# Altium footprint library Connectors - Rectangular.PcbLib: 28 footprints (part 2 of 2)
Each footprint in its own frame and in the unit in brackets; x right, y up, seen from the top. Pads: shape width x height; smd on the part's side, far side on the other; paste and mask are expansions set on the pad; w line width, h text height; cw(c..) or ccw(c..) is an arc to the next point about the centre after c.
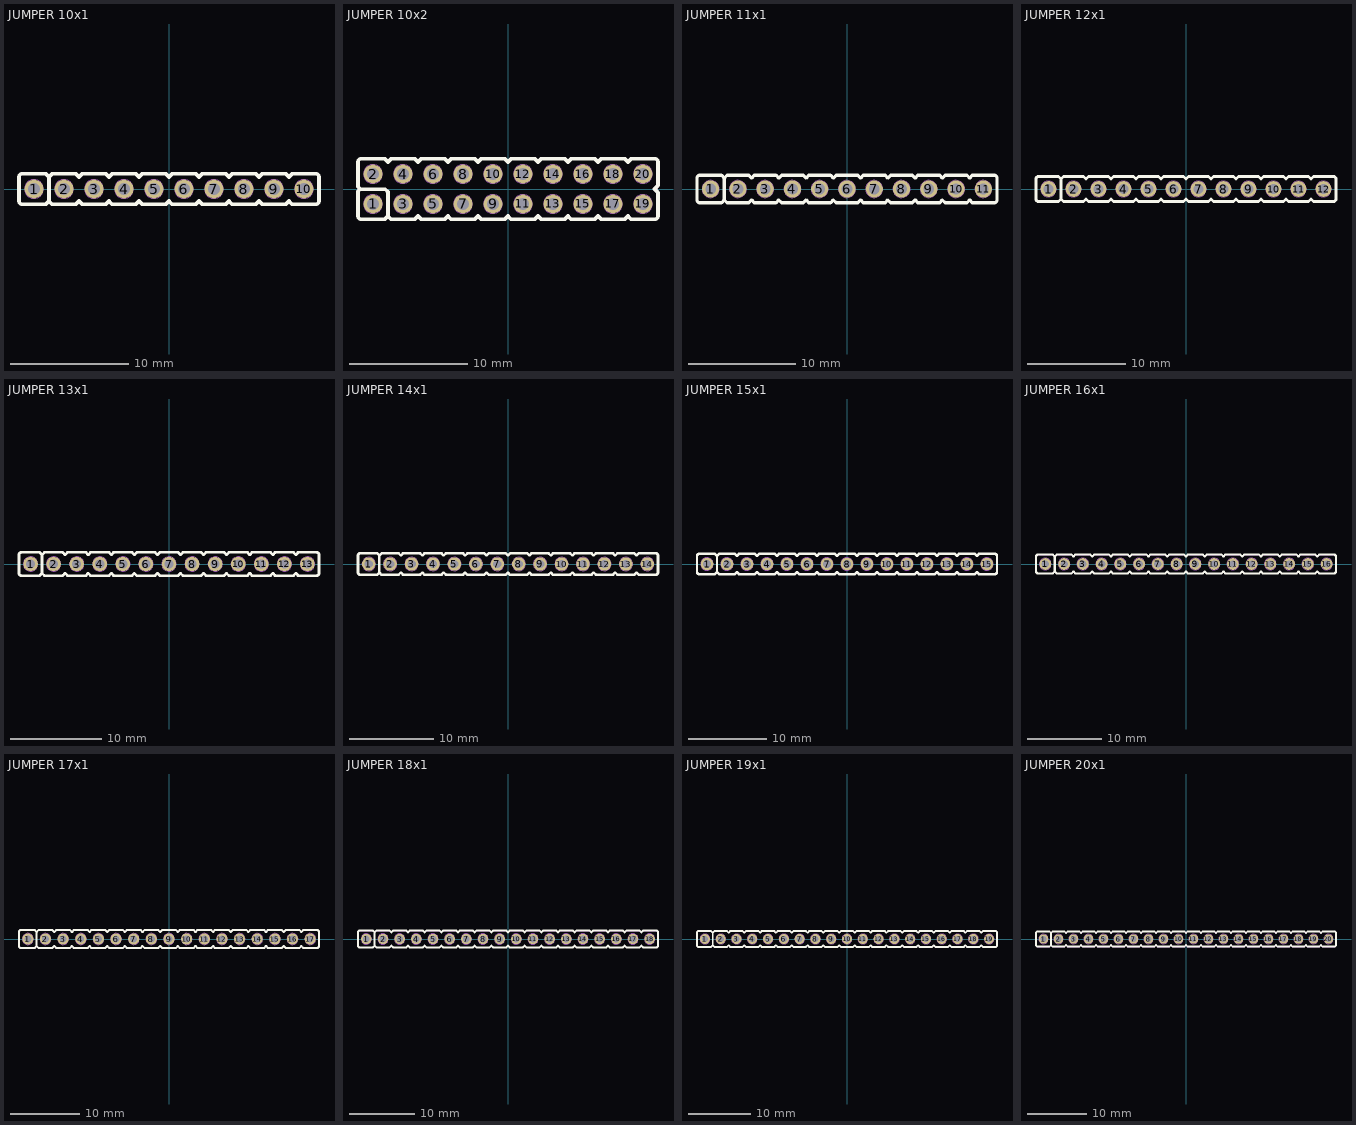
[diagram p1: the footprints below, top view; thin cyan lines are the x and y axes]

## JUMPER 10x1 [mm] "Connector DIP Male, 10Pin_2.54mm"
height 5
pads (10):
  round 1.6 hole 1 mask+0.1: 1(-11.43,0) 2(-8.89,0) 3(-6.35,0) 4(-3.81,0) 5(-1.27,0) 6(1.27,0) 7(3.81,0) 8(6.35,0) 9(8.89,0) 10(11.43,0)
Top Overlay:
  lines w0.3: -10.414,-1.28 -10.414,-1.27 ; -10.414,1.27 -10.16,1.016 ; -10.414,1.28 -12.46,1.28 ccw(c-12.44,1.02) -12.7,1 -12.7,-1 ccw(c-12.44,-1.02) -12.46,-1.28 -10.424,-1.28 -10.414,-1.27 ; -9.906,1.27 -10.16,1.016 ; -9.906,1.28 -7.874,1.28 -7.874,1.27 -7.62,1.016 -7.366,1.27 ; -7.38,-1.28 -5.344,-1.28 -5.334,-1.27 ; -7.38,1.28 -5.334,1.28 ; -7.366,-1.27 -7.62,-1.016 -7.874,-1.27 -7.874,-1.28 -9.906,-1.28 -10.16,-1.026 ; -5.334,-1.28 -5.334,-1.27 ; -5.334,1.27 -5.08,1.016 -4.826,1.27 ; -4.826,1.28 -2.794,1.28 -2.794,1.27 -2.54,1.016 -2.286,1.27 ; -2.3,-1.28 -0.264,-1.28 -0.254,-1.27 ; -2.3,1.28 -0.254,1.28 ; -2.286,-1.27 -2.54,-1.016 -2.794,-1.27 -2.794,-1.28 -4.826,-1.28 -5.08,-1.026 -5.08,-1.016 -5.334,-1.27 ; -0.254,-1.28 -0.254,-1.27 ; -0.254,1.27 0,1.016 0.254,1.27 ; 0.254,1.28 2.286,1.28 2.286,1.27 2.54,1.016 2.794,1.27 ; 2.78,-1.28 4.816,-1.28 4.826,-1.27 ; 2.78,1.28 4.826,1.28 ; 2.794,-1.27 2.54,-1.016 2.286,-1.27 2.286,-1.28 0.254,-1.28 0,-1.026 0,-1.016 -0.254,-1.27 ; 4.826,-1.28 4.826,-1.27 ; 4.826,1.27 5.08,1.016 5.334,1.27 ; 5.334,1.28 7.366,1.28 7.366,1.27 7.62,1.016 7.874,1.27 ; 7.86,-1.28 9.896,-1.28 9.906,-1.27 ; 7.86,1.28 9.906,1.28 ; 7.874,-1.27 7.62,-1.016 7.366,-1.27 7.366,-1.28 5.334,-1.28 5.08,-1.026 5.08,-1.016 4.826,-1.27 ; 9.906,-1.28 9.906,-1.27 ; 9.906,1.27 10.16,1.016 10.414,1.27 ; 10.414,1.28 12.446,1.28 ; 12.446,-1.28 10.414,-1.28 10.16,-1.026 10.16,-1.016 9.906,-1.27 ; 12.46,-1.28 ccw(c12.44,-1.02) 12.7,-1 12.7,1 ccw(c12.44,1.02) 12.46,1.28 ; -10.414,-1.27 -10.16,-1.016 -10.16,-1.026 ; -10.16,-1.026 -10.16,1.016
Top HCB:
  circle w0.05: c-11.43,0 r0.8
  circle w0.05: c-11.43,0 r0.8
  circle w0.05: c-3.81,0 r0.8
  circle w0.05: c-6.35,0 r0.8
  circle w0.05: c3.81,0 r0.8
  circle w0.05: c1.27,0 r0.8
  circle w0.05: c11.43,0 r0.8
  circle w0.05: c8.89,0 r0.8
  circle w0.05: c-1.27,0 r0.8
  circle w0.05: c-8.89,0 r0.8
  circle w0.05: c6.35,0 r0.8
  lines w0.05: -10.414,-1.28 -10.414,-1.27 ; -10.414,1.27 -10.16,1.016 ; -10.414,1.28 -12.46,1.28 ccw(c-12.44,1.02) -12.7,1 -12.7,-1 ccw(c-12.44,-1.02) -12.46,-1.28 -10.424,-1.28 -10.414,-1.27 ; -9.906,1.27 -10.16,1.016 ; -9.906,1.28 -7.874,1.28 -7.874,1.27 -7.62,1.016 -7.366,1.27 ; -7.38,-1.28 -5.344,-1.28 -5.334,-1.27 ; -7.38,1.28 -5.334,1.28 ; -7.366,-1.27 -7.62,-1.016 -7.874,-1.27 -7.874,-1.28 -9.906,-1.28 -10.16,-1.026 -10.16,-1.016 ; -5.334,-1.28 -5.334,-1.27 ; -5.334,1.27 -5.08,1.016 -4.826,1.27 ; -4.826,1.28 -2.794,1.28 -2.794,1.27 -2.54,1.016 -2.286,1.27 ; -2.3,-1.28 -0.264,-1.28 -0.254,-1.27 ; -2.3,1.28 -0.254,1.28 ; -2.286,-1.27 -2.54,-1.016 -2.794,-1.27 -2.794,-1.28 -4.826,-1.28 -5.08,-1.026 -5.08,-1.016 -5.334,-1.27 ; -0.254,-1.28 -0.254,-1.27 ; -0.254,1.27 0,1.016 0.254,1.27 ; 0.254,1.28 2.286,1.28 2.286,1.27 2.54,1.016 2.794,1.27 ; 2.78,-1.28 4.816,-1.28 4.826,-1.27 ; 2.78,1.28 4.826,1.28 ; 2.794,-1.27 2.54,-1.016 2.286,-1.27 2.286,-1.28 0.254,-1.28 0,-1.026 0,-1.016 -0.254,-1.27 ; 4.826,-1.28 4.826,-1.27 ; 4.826,1.27 5.08,1.016 5.334,1.27 ; 5.334,1.28 7.366,1.28 7.366,1.27 7.62,1.016 7.874,1.27 ; 7.86,-1.28 9.896,-1.28 9.906,-1.27 ; 7.86,1.28 9.906,1.28 ; 7.874,-1.27 7.62,-1.016 7.366,-1.27 7.366,-1.28 5.334,-1.28 5.08,-1.026 5.08,-1.016 4.826,-1.27 ; 9.906,-1.28 9.906,-1.27 ; 9.906,1.27 10.16,1.016 10.414,1.27 ; 10.414,1.28 12.446,1.28 ; 12.446,-1.28 10.414,-1.28 10.16,-1.026 10.16,-1.016 9.906,-1.27 ; 12.46,-1.28 ccw(c12.44,-1.02) 12.7,-1 12.7,1 ccw(c12.44,1.02) 12.46,1.28 ; -10.414,-1.27 -10.16,-1.016 ; -10.16,-1.016 -10.16,1.016
  text "1" at -11.6,-0.4 h1.2
  text "10" at 10.9,-0.4 h1.2
3D body "Header 1x10.STEP": height 10.1, standoff -1.5, extent -12.7,-1.27 12.7,1.27

## JUMPER 10x2 [mm] "Connector DIP Male, 2x10Pin_2.54mm"
height 5
pads (20):
  round 1.6 hole 1 mask+0.1: 1(-11.43,-1.27) 2(-11.43,1.27) 3(-8.89,-1.27) 4(-8.89,1.27) 5(-6.35,-1.27) 6(-6.35,1.27) 7(-3.81,-1.27) 8(-3.81,1.27) 9(-1.27,-1.27) 10(-1.27,1.27) 11(1.27,-1.27) 12(1.27,1.27) 13(3.81,-1.27) 14(3.81,1.27) 15(6.35,-1.27) 16(6.35,1.27) 17(8.89,-1.27) 18(8.89,1.27) 19(11.43,-1.27) 20(11.43,1.27)
Top Overlay:
  lines w0.3: -12.5,-0.01 -10.4,-0.01 -10.16,-0.25 -10.16,-2.306 ; -10.414,-2.55 -10.414,-2.54 ; -10.414,2.54 -10.16,2.286 -9.906,2.54 ; -10.414,2.55 -12.46,2.55 ccw(c-12.44,2.29) -12.7,2.27 -12.7,0.2 -12.5,0 -12.7,-0.2 -12.7,-2.27 ccw(c-12.44,-2.29) -12.46,-2.55 -10.424,-2.55 -10.414,-2.54 ; -9.906,2.55 -7.874,2.55 -7.874,2.54 -7.62,2.286 -7.366,2.54 ; -7.38,-2.55 -5.344,-2.55 -5.334,-2.54 ; -7.38,2.55 -5.334,2.55 ; -7.366,-2.54 -7.62,-2.286 -7.874,-2.54 -7.874,-2.55 -9.906,-2.55 -10.16,-2.296 -10.16,-2.286 -10.414,-2.54 ; -5.334,-2.55 -5.334,-2.54 ; -5.334,2.54 -5.08,2.286 -4.826,2.54 ; -4.826,2.55 -2.794,2.55 -2.794,2.54 -2.54,2.286 -2.286,2.54 ; -2.3,-2.55 -0.264,-2.55 -0.254,-2.54 ; -2.3,2.55 -0.254,2.55 ; -2.286,-2.54 -2.54,-2.286 -2.794,-2.54 -2.794,-2.55 -4.826,-2.55 -5.08,-2.296 -5.08,-2.286 -5.334,-2.54 ; -0.254,-2.55 -0.254,-2.54 ; -0.254,2.54 0,2.286 0.254,2.54 ; 0.254,2.55 2.286,2.55 2.286,2.54 2.54,2.286 2.794,2.54 ; 2.78,-2.55 4.816,-2.55 4.826,-2.54 ; 2.78,2.55 4.826,2.55 ; 2.794,-2.54 2.54,-2.286 2.286,-2.54 2.286,-2.55 0.254,-2.55 0,-2.296 0,-2.286 -0.254,-2.54 ; 4.826,-2.55 4.826,-2.54 ; 4.826,2.54 5.08,2.286 5.334,2.54 ; 5.334,2.55 7.366,2.55 7.366,2.54 7.62,2.286 7.874,2.54 ; 7.86,-2.55 9.896,-2.55 9.906,-2.54 ; 7.86,2.55 9.906,2.55 ; 7.874,-2.54 7.62,-2.286 7.366,-2.54 7.366,-2.55 5.334,-2.55 5.08,-2.296 5.08,-2.286 4.826,-2.54 ; 9.906,-2.55 9.906,-2.54 ; 9.906,2.54 10.16,2.286 10.414,2.54 ; 10.414,2.55 12.446,2.55 ; 12.446,-2.55 10.414,-2.55 10.16,-2.296 10.16,-2.286 9.906,-2.54 ; 12.46,-2.55 ccw(c12.44,-2.29) 12.7,-2.27 ; 12.46,2.55 cw(c12.44,2.29) 12.7,2.27 12.7,0.3 12.4,0 12.7,-0.3 12.7,-2.2
Top HCB:
  circle w0.05: c-11.43,1.27 r0.8
  circle w0.05: c-6.35,1.27 r0.8
  circle w0.05: c-3.81,1.27 r0.8
  circle w0.05: c1.27,1.27 r0.8
  circle w0.05: c3.81,1.27 r0.8
  circle w0.05: c8.89,1.27 r0.8
  circle w0.05: c11.43,1.27 r0.8
  circle w0.05: c-11.43,-1.27 r0.8
  circle w0.05: c-3.81,-1.27 r0.8
  circle w0.05: c-6.35,-1.27 r0.8
  circle w0.05: c3.81,-1.27 r0.8
  circle w0.05: c1.27,-1.27 r0.8
  circle w0.05: c11.43,-1.27 r0.8
  circle w0.05: c8.89,-1.27 r0.8
  circle w0.05: c-8.89,1.27 r0.8
  circle w0.05: c-1.27,1.27 r0.8
  circle w0.05: c6.35,1.27 r0.8
  circle w0.05: c-1.27,-1.27 r0.8
  circle w0.05: c-8.89,-1.27 r0.8
  circle w0.05: c6.35,-1.27 r0.8
  lines w0.05: -12.7,0 -10.4,0 -10.16,-0.24 -10.16,-2.296 ; -10.414,-2.55 -10.414,-2.54 ; -10.414,2.54 -10.16,2.286 -9.906,2.54 ; -10.414,2.55 -12.46,2.55 ccw(c-12.44,2.29) -12.7,2.27 -12.7,-2.27 ccw(c-12.44,-2.29) -12.46,-2.55 -10.424,-2.55 -10.414,-2.54 ; -9.906,2.55 -7.874,2.55 -7.874,2.54 -7.62,2.286 -7.366,2.54 ; -7.38,-2.55 -5.344,-2.55 -5.334,-2.54 ; -7.38,2.55 -5.334,2.55 ; -7.366,-2.54 -7.62,-2.286 -7.874,-2.54 -7.874,-2.55 -9.906,-2.55 -10.16,-2.296 ; -5.334,-2.55 -5.334,-2.54 ; -5.334,2.54 -5.08,2.286 -4.826,2.54 ; -4.826,2.55 -2.794,2.55 -2.794,2.54 -2.54,2.286 -2.286,2.54 ; -2.3,-2.55 -0.264,-2.55 -0.254,-2.54 ; -2.3,2.55 -0.254,2.55 ; -2.286,-2.54 -2.54,-2.286 -2.794,-2.54 -2.794,-2.55 -4.826,-2.55 -5.08,-2.296 -5.08,-2.286 -5.334,-2.54 ; -0.254,-2.55 -0.254,-2.54 ; -0.254,2.54 0,2.286 0.254,2.54 ; 0.254,2.55 2.286,2.55 2.286,2.54 2.54,2.286 2.794,2.54 ; 2.78,-2.55 4.816,-2.55 4.826,-2.54 ; 2.78,2.55 4.826,2.55 ; 2.794,-2.54 2.54,-2.286 2.286,-2.54 2.286,-2.55 0.254,-2.55 0,-2.296 0,-2.286 -0.254,-2.54 ; 4.826,-2.55 4.826,-2.54 ; 4.826,2.54 5.08,2.286 5.334,2.54 ; 5.334,2.55 7.366,2.55 7.366,2.54 7.62,2.286 7.874,2.54 ; 7.86,-2.55 9.896,-2.55 9.906,-2.54 ; 7.86,2.55 9.906,2.55 ; 7.874,-2.54 7.62,-2.286 7.366,-2.54 7.366,-2.55 5.334,-2.55 5.08,-2.296 5.08,-2.286 4.826,-2.54 ; 9.906,-2.55 9.906,-2.54 ; 9.906,2.54 10.16,2.286 10.414,2.54 ; 10.414,2.55 12.446,2.55 ; 12.446,-2.55 10.414,-2.55 10.16,-2.296 10.16,-2.286 9.906,-2.54 ; 12.46,-2.55 ccw(c12.44,-2.29) 12.7,-2.27 12.7,2.27 ccw(c12.44,2.29) 12.46,2.55 ; -10.414,-2.54 -10.16,-2.286 -10.16,-2.296
  text "1" at -11.6,-1.67 h1.2
  text "2" at -11.6,0.87 h1.2
  text "19" at 10.9,-1.67 h1.2
  text "20" at 10.9,0.87 h1.2
3D body "User Library-0_1_inch_double row_pin strip 10.step": height 10.1, standoff -1.5, extent -12.7,-2.54 12.7,2.54

## JUMPER 11x1 [mm] "Connector DIP Male, 11Pin_2.54mm"
height 5
pads (11):
  round 1.6 hole 1 mask+0.1: 1(-12.7,0) 2(-10.16,0) 3(-7.62,0) 4(-5.08,0) 5(-2.54,0) 6(0,0) 7(2.54,0) 8(5.08,0) 9(7.62,0) 10(10.16,0) 11(12.7,0)
Top Overlay:
  lines w0.3: -11.684,-1.28 -11.684,-1.27 ; -11.684,1.27 -11.43,1.016 ; -11.684,1.28 -13.73,1.28 ccw(c-13.71,1.02) -13.97,1 -13.97,-1 ccw(c-13.71,-1.02) -13.73,-1.28 -11.694,-1.28 -11.684,-1.27 ; -11.176,1.27 -11.43,1.016 ; -11.176,1.28 -9.144,1.28 -9.144,1.27 -8.89,1.016 -8.636,1.27 ; -8.65,-1.28 -6.614,-1.28 -6.604,-1.27 ; -8.65,1.28 -6.604,1.28 ; -8.636,-1.27 -8.89,-1.016 -9.144,-1.27 -9.144,-1.28 -11.176,-1.28 -11.43,-1.026 -11.43,-1.016 ; -6.604,-1.28 -6.604,-1.27 ; -6.604,1.27 -6.35,1.016 -6.096,1.27 ; -6.096,1.28 -4.064,1.28 -4.064,1.27 -3.81,1.016 -3.556,1.27 ; -3.57,-1.28 -1.534,-1.28 -1.524,-1.27 ; -3.57,1.28 -1.524,1.28 ; -3.556,-1.27 -3.81,-1.016 -4.064,-1.27 -4.064,-1.28 -6.096,-1.28 -6.35,-1.026 -6.35,-1.016 -6.604,-1.27 ; -1.524,-1.28 -1.524,-1.27 ; -1.524,1.27 -1.27,1.016 -1.016,1.27 ; -1.016,1.28 1.016,1.28 1.016,1.27 1.27,1.016 1.524,1.27 ; 1.51,-1.28 3.546,-1.28 3.556,-1.27 ; 1.51,1.28 3.556,1.28 ; 1.524,-1.27 1.27,-1.016 1.016,-1.27 1.016,-1.28 -1.016,-1.28 -1.27,-1.026 -1.27,-1.016 -1.524,-1.27 ; 3.556,-1.28 3.556,-1.27 ; 3.556,1.27 3.81,1.016 4.064,1.27 ; 4.064,1.28 6.096,1.28 6.096,1.27 6.35,1.016 6.604,1.27 ; 6.59,-1.28 8.626,-1.28 8.636,-1.27 ; 6.59,1.28 8.636,1.28 ; 6.604,-1.27 6.35,-1.016 6.096,-1.27 6.096,-1.28 4.064,-1.28 3.81,-1.026 3.81,-1.016 3.556,-1.27 ; 8.636,-1.28 8.636,-1.27 ; 8.636,1.27 8.89,1.016 9.144,1.27 ; 9.144,1.28 11.176,1.28 11.176,1.27 11.43,1.016 11.684,1.27 ; 11.67,-1.28 13.706,-1.28 ; 11.67,1.28 13.716,1.28 ; 11.684,-1.27 11.43,-1.016 11.176,-1.27 11.176,-1.28 9.144,-1.28 8.89,-1.026 8.89,-1.016 8.636,-1.27 ; 13.73,-1.28 ccw(c13.71,-1.02) 13.97,-1 13.97,1 ccw(c13.71,1.02) 13.73,1.28 ; -11.684,-1.27 -11.43,-1.016 ; -11.43,-1.016 -11.43,1.016
Top HCB:
  circle w0.05: c7.62,0 r0.8
  circle w0.05: c12.7,0 r0.8
  circle w0.05: c10.16,0 r0.8
  circle w0.05: c2.54,0 r0.8
  circle w0.05: c0,0 r0.8
  circle w0.05: c-2.54,0 r0.8
  circle w0.05: c-7.62,0 r0.8
  circle w0.05: c-10.16,0 r0.8
  circle w0.05: c-12.7,0 r0.8
  circle w0.05: c-12.7,0 r0.8
  circle w0.05: c5.08,0 r0.8
  circle w0.05: c-5.08,0 r0.8
  lines w0.05: -11.684,-1.28 -11.684,-1.27 ; -11.684,1.27 -11.43,1.016 -11.176,1.27 ; -11.684,1.28 -13.73,1.28 ccw(c-13.71,1.02) -13.97,1 -13.97,-1 ccw(c-13.71,-1.02) -13.73,-1.28 -11.694,-1.28 -11.684,-1.27 ; -11.176,1.28 -9.144,1.28 -9.144,1.27 -8.89,1.016 -8.636,1.27 ; -8.65,-1.28 -6.614,-1.28 -6.604,-1.27 ; -8.65,1.28 -6.604,1.28 ; -8.636,-1.27 -8.89,-1.016 -9.144,-1.27 -9.144,-1.28 -11.176,-1.28 -11.43,-1.026 -11.43,-1.016 -11.684,-1.27 ; -6.604,-1.28 -6.604,-1.27 ; -6.604,1.27 -6.35,1.016 -6.096,1.27 ; -6.096,1.28 -4.064,1.28 -4.064,1.27 -3.81,1.016 -3.556,1.27 ; -3.57,-1.28 -1.534,-1.28 -1.524,-1.27 ; -3.57,1.28 -1.524,1.28 ; -3.556,-1.27 -3.81,-1.016 -4.064,-1.27 -4.064,-1.28 -6.096,-1.28 -6.35,-1.026 -6.35,-1.016 -6.604,-1.27 ; -1.524,-1.28 -1.524,-1.27 ; -1.524,1.27 -1.27,1.016 -1.016,1.27 ; -1.016,1.28 1.016,1.28 1.016,1.27 1.27,1.016 1.524,1.27 ; 1.51,-1.28 3.546,-1.28 3.556,-1.27 ; 1.51,1.28 3.556,1.28 ; 1.524,-1.27 1.27,-1.016 1.016,-1.27 1.016,-1.28 -1.016,-1.28 -1.27,-1.026 -1.27,-1.016 -1.524,-1.27 ; 3.556,-1.28 3.556,-1.27 ; 3.556,1.27 3.81,1.016 4.064,1.27 ; 4.064,1.28 6.096,1.28 6.096,1.27 6.35,1.016 6.604,1.27 ; 6.59,-1.28 8.626,-1.28 8.636,-1.27 ; 6.59,1.28 8.636,1.28 ; 6.604,-1.27 6.35,-1.016 6.096,-1.27 6.096,-1.28 4.064,-1.28 3.81,-1.026 3.81,-1.016 3.556,-1.27 ; 8.636,-1.28 8.636,-1.27 ; 8.636,1.27 8.89,1.016 9.144,1.27 ; 9.144,1.28 11.176,1.28 11.176,1.27 11.43,1.016 11.684,1.27 ; 11.67,-1.28 13.706,-1.28 ; 11.67,1.28 13.716,1.28 ; 11.684,-1.27 11.43,-1.016 11.176,-1.27 11.176,-1.28 9.144,-1.28 8.89,-1.026 8.89,-1.016 8.636,-1.27 ; 13.73,-1.28 ccw(c13.71,-1.02) 13.97,-1 13.97,1 ccw(c13.71,1.02) 13.73,1.28
  text "11" at 12.2,-0.4 h1.2
  text "1" at -12.842,-0.386 h1.2
3D body "SW3dPS-0_1inch pin strip.STEP": height 10.1, standoff -1.5, extent -13.97,-1.27 13.97,1.27

## JUMPER 12x1 [mm] "Connector DIP, 12Pin_2.54mm"
height 5
pads (12):
  round 1.6 hole 1 mask+0.1: 1(-13.97,0) 2(-11.43,0) 3(-8.89,0) 4(-6.35,0) 5(-3.81,0) 6(-1.27,0) 7(1.27,0) 8(3.81,0) 9(6.35,0) 10(8.89,0) 11(11.43,0) 12(13.97,0)
Top Overlay:
  lines w0.3: -12.954,-1.28 -12.954,-1.27 ; -12.954,1.27 -12.7,1.016 ; -12.954,1.28 -15,1.28 ccw(c-14.98,1.02) -15.24,1 -15.24,-1 ccw(c-14.98,-1.02) -15,-1.28 -12.964,-1.28 -12.954,-1.27 ; -12.446,1.27 -12.7,1.016 ; -12.446,1.28 -10.414,1.28 -10.414,1.27 -10.16,1.016 -9.906,1.27 ; -9.92,-1.28 -7.884,-1.28 -7.874,-1.27 ; -9.92,1.28 -7.874,1.28 ; -9.906,-1.27 -10.16,-1.016 -10.414,-1.27 -10.414,-1.28 -12.446,-1.28 -12.7,-1.026 -12.7,-1.016 ; -7.874,-1.28 -7.874,-1.27 ; -7.874,1.27 -7.62,1.016 -7.366,1.27 ; -7.366,1.28 -5.334,1.28 -5.334,1.27 -5.08,1.016 -4.826,1.27 ; -4.84,-1.28 -2.804,-1.28 -2.794,-1.27 ; -4.84,1.28 -2.794,1.28 ; -4.826,-1.27 -5.08,-1.016 -5.334,-1.27 -5.334,-1.28 -7.366,-1.28 -7.62,-1.026 -7.62,-1.016 -7.874,-1.27 ; -2.794,-1.28 -2.794,-1.27 ; -2.794,1.27 -2.54,1.016 -2.286,1.27 ; -2.286,1.28 -0.254,1.28 -0.254,1.27 0,1.016 0.254,1.27 ; 0.24,-1.28 2.276,-1.28 2.286,-1.27 ; 0.24,1.28 2.286,1.28 ; 0.254,-1.27 0,-1.016 -0.254,-1.27 -0.254,-1.28 -2.286,-1.28 -2.54,-1.026 -2.54,-1.016 -2.794,-1.27 ; 2.286,-1.28 2.286,-1.27 ; 2.286,1.27 2.54,1.016 2.794,1.27 ; 2.794,1.28 4.826,1.28 4.826,1.27 5.08,1.016 5.334,1.27 ; 5.32,-1.28 7.356,-1.28 7.366,-1.27 ; 5.32,1.28 7.366,1.28 ; 5.334,-1.27 5.08,-1.016 4.826,-1.27 4.826,-1.28 2.794,-1.28 2.54,-1.026 2.54,-1.016 2.286,-1.27 ; 7.366,-1.28 7.366,-1.27 ; 7.366,1.27 7.62,1.016 7.874,1.27 ; 7.874,1.28 9.906,1.28 9.906,1.27 10.16,1.016 10.414,1.27 ; 10.4,-1.28 12.436,-1.28 12.446,-1.27 ; 10.4,1.28 12.446,1.28 ; 10.414,-1.27 10.16,-1.016 9.906,-1.27 9.906,-1.28 7.874,-1.28 7.62,-1.026 7.62,-1.016 7.366,-1.27 ; 12.446,-1.28 12.446,-1.27 ; 12.446,1.27 12.7,1.016 12.954,1.27 ; 12.954,1.28 14.986,1.28 14.986,1.27 ; 14.96,-1.28 ccw(c14.96,-1) 15.24,-1 15.24,1 ccw(c14.96,1) 14.96,1.28 ; 14.986,-1.27 14.986,-1.28 12.954,-1.28 12.7,-1.026 12.7,-1.016 12.446,-1.27 ; -12.954,-1.27 -12.7,-1.016 ; -12.7,-1.016 -12.7,1.016
Top HCB:
  circle w0.05: c-13.97,0 r0.8
  circle w0.05: c-13.97,0 r0.8
  circle w0.05: c-11.43,0 r0.8
  circle w0.05: c-6.35,0 r0.8
  circle w0.05: c-3.81,0 r0.8
  circle w0.05: c1.27,0 r0.8
  circle w0.05: c3.81,0 r0.8
  circle w0.05: c8.89,0 r0.8
  circle w0.05: c11.43,0 r0.8
  circle w0.05: c13.97,0 r0.8
  circle w0.05: c-8.89,0 r0.8
  circle w0.05: c-1.27,0 r0.8
  circle w0.05: c6.35,0 r0.8
  lines w0.05: -12.954,-1.28 -12.954,-1.27 ; -12.954,1.27 -12.7,1.016 -12.446,1.27 ; -12.954,1.28 -15,1.28 ccw(c-14.98,1.02) -15.24,1 -15.24,-1 ccw(c-14.98,-1.02) -15,-1.28 -12.964,-1.28 -12.954,-1.27 ; -12.446,1.28 -10.414,1.28 -10.414,1.27 -10.16,1.016 -9.906,1.27 ; -9.92,-1.28 -7.884,-1.28 -7.874,-1.27 ; -9.92,1.28 -7.874,1.28 ; -9.906,-1.27 -10.16,-1.016 -10.414,-1.27 -10.414,-1.28 -12.446,-1.28 -12.7,-1.026 -12.7,-1.016 -12.954,-1.27 ; -7.874,-1.28 -7.874,-1.27 ; -7.874,1.27 -7.62,1.016 -7.366,1.27 ; -7.366,1.28 -5.334,1.28 -5.334,1.27 -5.08,1.016 -4.826,1.27 ; -4.84,-1.28 -2.804,-1.28 -2.794,-1.27 ; -4.84,1.28 -2.794,1.28 ; -4.826,-1.27 -5.08,-1.016 -5.334,-1.27 -5.334,-1.28 -7.366,-1.28 -7.62,-1.026 -7.62,-1.016 -7.874,-1.27 ; -2.794,-1.28 -2.794,-1.27 ; -2.794,1.27 -2.54,1.016 -2.286,1.27 ; -2.286,1.28 -0.254,1.28 -0.254,1.27 0,1.016 0.254,1.27 ; 0.24,-1.28 2.276,-1.28 2.286,-1.27 ; 0.24,1.28 2.286,1.28 ; 0.254,-1.27 0,-1.016 -0.254,-1.27 -0.254,-1.28 -2.286,-1.28 -2.54,-1.026 -2.54,-1.016 -2.794,-1.27 ; 2.286,-1.28 2.286,-1.27 ; 2.286,1.27 2.54,1.016 2.794,1.27 ; 2.794,1.28 4.826,1.28 4.826,1.27 5.08,1.016 5.334,1.27 ; 5.32,-1.28 7.356,-1.28 7.366,-1.27 ; 5.32,1.28 7.366,1.28 ; 5.334,-1.27 5.08,-1.016 4.826,-1.27 4.826,-1.28 2.794,-1.28 2.54,-1.026 2.54,-1.016 2.286,-1.27 ; 7.366,-1.28 7.366,-1.27 ; 7.366,1.27 7.62,1.016 7.874,1.27 ; 7.874,1.28 9.906,1.28 9.906,1.27 10.16,1.016 10.414,1.27 ; 10.4,-1.28 12.436,-1.28 12.446,-1.27 ; 10.4,1.28 12.446,1.28 ; 10.414,-1.27 10.16,-1.016 9.906,-1.27 9.906,-1.28 7.874,-1.28 7.62,-1.026 7.62,-1.016 7.366,-1.27 ; 12.446,-1.28 12.446,-1.27 ; 12.446,1.27 12.7,1.016 12.954,1.27 ; 12.954,1.28 14.986,1.28 14.986,1.27 ; 14.96,-1.28 ccw(c14.96,-1) 15.24,-1 15.24,1 ccw(c14.96,1) 14.96,1.28 ; 14.986,-1.27 14.986,-1.28 12.954,-1.28 12.7,-1.026 12.7,-1.016 12.446,-1.27
  text "1" at -14.2,-0.4 h1.2
  text "12" at 13.5,-0.4 h1.2
3D body "SW3dPS-0_1inch pin strip 12.STEP": height 10.1, standoff -1.5, extent -15.24,-1.27 15.24,1.27

## JUMPER 13x1 [mm] "Connector DIP Male, 13Pin_2.54mm"
height 5
pads (13):
  round 1.6 hole 1 mask+0.1: 1(-15.24,0) 2(-12.7,0) 3(-10.16,0) 4(-7.62,0) 5(-5.08,0) 6(-2.54,0) 7(0,0) 8(2.54,0) 9(5.08,0) 10(7.62,0) 11(10.16,0) 12(12.7,0) 13(15.24,0)
Top Overlay:
  lines w0.3: -14.224,-1.28 -14.224,-1.27 ; -14.224,1.27 -13.97,1.016 ; -14.224,1.28 -16.27,1.28 ccw(c-16.25,1.02) -16.51,1 -16.51,-1 ccw(c-16.25,-1.02) -16.27,-1.28 -14.234,-1.28 -14.224,-1.27 ; -13.716,1.27 -13.97,1.016 ; -13.716,1.28 -11.684,1.28 -11.684,1.27 -11.43,1.016 -11.176,1.27 ; -11.19,-1.28 -9.154,-1.28 -9.144,-1.27 ; -11.19,1.28 -9.144,1.28 ; -11.176,-1.27 -11.43,-1.016 -11.684,-1.27 -11.684,-1.28 -13.716,-1.28 -13.97,-1.026 -13.97,-1.016 ; -9.144,-1.28 -9.144,-1.27 ; -9.144,1.27 -8.89,1.016 -8.636,1.27 ; -8.636,1.28 -6.604,1.28 -6.604,1.27 -6.35,1.016 -6.096,1.27 ; -6.11,-1.28 -4.074,-1.28 -4.064,-1.27 ; -6.11,1.28 -4.064,1.28 ; -6.096,-1.27 -6.35,-1.016 -6.604,-1.27 -6.604,-1.28 -8.636,-1.28 -8.89,-1.026 -8.89,-1.016 -9.144,-1.27 ; -4.064,-1.28 -4.064,-1.27 ; -4.064,1.27 -3.81,1.016 -3.556,1.27 ; -3.556,1.28 -1.524,1.28 -1.524,1.27 -1.27,1.016 -1.016,1.27 ; -1.03,-1.28 1.006,-1.28 1.016,-1.27 ; -1.03,1.28 1.016,1.28 ; -1.016,-1.27 -1.27,-1.016 -1.524,-1.27 -1.524,-1.28 -3.556,-1.28 -3.81,-1.026 -3.81,-1.016 -4.064,-1.27 ; 1.016,-1.28 1.016,-1.27 ; 1.016,1.27 1.27,1.016 1.524,1.27 ; 1.524,1.28 3.556,1.28 3.556,1.27 3.81,1.016 4.064,1.27 ; 4.05,-1.28 6.086,-1.28 6.096,-1.27 ; 4.05,1.28 6.096,1.28 ; 4.064,-1.27 3.81,-1.016 3.556,-1.27 3.556,-1.28 1.524,-1.28 1.27,-1.026 1.27,-1.016 1.016,-1.27 ; 6.096,-1.28 6.096,-1.27 ; 6.096,1.27 6.35,1.016 6.604,1.27 ; 6.604,1.28 8.636,1.28 8.636,1.27 8.89,1.016 ; 11.67,-1.28 13.706,-1.28 13.716,-1.27 ; 11.67,1.28 13.716,1.28 ; 11.684,-1.27 11.43,-1.016 ; 11.684,1.27 11.43,1.016 ; 13.716,-1.28 13.716,-1.27 ; 13.716,1.27 13.97,1.016 14.224,1.27 ; 14.21,-1.28 16.246,-1.28 ; 14.21,1.28 16.256,1.28 ; 14.224,-1.27 13.97,-1.016 13.716,-1.27 ; 16.27,-1.28 ccw(c16.25,-1.02) 16.51,-1 16.51,1 ccw(c16.25,1.02) 16.27,1.28 ; -14.224,-1.27 -13.97,-1.016 ; -13.97,-1.016 -13.97,1.016 ; 6.096,-1.27 6.35,-1.016 6.35,-1.026 6.604,-1.28 8.636,-1.28 8.636,-1.27 8.89,-1.016 ; 8.89,-1.016 9.144,-1.27 8.89,-1.016 ; 8.89,1.016 9.144,1.27 8.89,1.016 ; 11.166,-1.28 11.176,-1.27 ; 11.166,-1.28 9.13,-1.28 11.166,-1.28 ; 11.166,-1.28 11.176,-1.27 ; 11.176,-1.27 11.43,-1.016 ; 11.176,-1.27 11.176,-1.28 11.176,-1.27 ; 11.176,-1.27 11.43,-1.016 ; 11.43,1.016 11.176,1.27 11.43,1.016 ; 9.13,1.28 11.176,1.28 9.13,1.28
Top HCB:
  circle w0.05: c7.62,0 r0.8
  circle w0.05: c12.7,0 r0.8
  circle w0.05: c10.16,0 r0.8
  circle w0.05: c0,0 r0.8
  circle w0.05: c2.54,0 r0.8
  circle w0.05: c-7.62,0 r0.8
  circle w0.05: c-2.54,0 r0.8
  circle w0.05: c-12.7,0 r0.8
  circle w0.05: c-10.16,0 r0.8
  circle w0.05: c15.24,0 r0.8
  circle w0.05: c5.08,0 r0.8
  circle w0.05: c-5.08,0 r0.8
  circle w0.05: c-15.24,0 r0.8
  circle w0.05: c-15.24,0 r0.8
  lines w0.05: -14.224,-1.28 -14.224,-1.27 ; -14.224,1.27 -13.97,1.016 -13.716,1.27 ; -14.224,1.28 -16.27,1.28 ccw(c-16.25,1.02) -16.51,1 -16.51,-1 ccw(c-16.25,-1.02) -16.27,-1.28 -14.234,-1.28 -14.224,-1.27 ; -13.716,1.28 -11.684,1.28 -11.684,1.27 -11.43,1.016 -11.176,1.27 ; -11.19,-1.28 -9.154,-1.28 -9.144,-1.27 ; -11.19,1.28 -9.144,1.28 ; -11.176,-1.27 -11.43,-1.016 -11.684,-1.27 -11.684,-1.28 -13.716,-1.28 -13.97,-1.026 -13.97,-1.016 -14.224,-1.27 ; -9.144,-1.28 -9.144,-1.27 ; -9.144,1.27 -8.89,1.016 -8.636,1.27 ; -8.636,1.28 -6.604,1.28 -6.604,1.27 -6.35,1.016 -6.096,1.27 ; -6.11,-1.28 -4.074,-1.28 -4.064,-1.27 ; -6.11,1.28 -4.064,1.28 ; -6.096,-1.27 -6.35,-1.016 -6.604,-1.27 -6.604,-1.28 -8.636,-1.28 -8.89,-1.026 -8.89,-1.016 -9.144,-1.27 ; -4.064,-1.28 -4.064,-1.27 ; -4.064,1.27 -3.81,1.016 -3.556,1.27 ; -3.556,1.28 -1.524,1.28 -1.524,1.27 -1.27,1.016 -1.016,1.27 ; -1.03,-1.28 1.006,-1.28 1.016,-1.27 ; -1.03,1.28 1.016,1.28 ; -1.016,-1.27 -1.27,-1.016 -1.524,-1.27 -1.524,-1.28 -3.556,-1.28 -3.81,-1.026 -3.81,-1.016 -4.064,-1.27 ; 1.016,-1.28 1.016,-1.27 ; 1.016,1.27 1.27,1.016 1.524,1.27 ; 1.524,1.28 3.556,1.28 3.556,1.27 3.81,1.016 4.064,1.27 ; 4.05,-1.28 6.086,-1.28 6.096,-1.27 ; 4.05,1.28 6.096,1.28 ; 4.064,-1.27 3.81,-1.016 3.556,-1.27 3.556,-1.28 1.524,-1.28 1.27,-1.026 1.27,-1.016 1.016,-1.27 ; 6.096,-1.28 6.096,-1.27 ; 6.096,1.27 6.35,1.016 6.604,1.27 ; 6.604,1.28 8.636,1.28 ; 9.13,-1.28 11.166,-1.28 ; 9.13,1.28 11.176,1.28 11.176,1.27 11.43,1.016 11.684,1.27 ; 9.144,-1.27 8.89,-1.016 ; 9.144,1.27 8.89,1.016 ; 11.67,-1.28 13.706,-1.28 13.716,-1.27 ; 11.67,1.28 13.716,1.28 13.716,1.27 ; 11.684,-1.27 11.43,-1.016 11.176,-1.27 ; 14.21,-1.28 16.246,-1.28 ; 14.21,1.28 16.256,1.28 ; 14.224,-1.27 13.97,-1.016 ; 14.224,1.27 13.97,1.016 ; 16.27,-1.28 ccw(c16.25,-1.02) 16.51,-1 16.51,1 ccw(c16.25,1.02) 16.27,1.28 ; 6.096,-1.27 6.35,-1.016 6.35,-1.026 6.604,-1.28 8.636,-1.28 ; 8.636,-1.28 8.636,-1.27 ; 8.636,-1.28 8.636,-1.27 ; 8.636,-1.27 8.89,-1.016 ; 8.636,-1.27 8.89,-1.016 ; 8.636,1.27 8.89,1.016 ; 8.636,1.27 8.636,1.28 ; 8.636,1.27 8.636,1.28 ; 8.636,1.27 8.89,1.016 ; 11.166,-1.28 11.176,-1.27 ; 11.166,-1.28 11.176,-1.27 ; 11.176,-1.28 11.176,-1.27 ; 11.176,-1.28 11.176,-1.27 ; 11.176,-1.28 11.176,-1.27 ; 13.716,-1.27 13.716,-1.28 13.716,-1.27 ; 13.716,-1.27 13.97,-1.016 ; 13.716,-1.27 13.97,-1.016 ; 13.716,1.27 13.97,1.016 ; 13.716,1.27 13.97,1.016
  text ".Designator" at -2.705,1.728 h1.2
  text "13" at 14.6,-0.4 h1.2
  text "1" at -15.4,-0.4 h1.2
3D body "SW3dPS-0_1inch pin strip.STEP": height 1.5, standoff -10.1, extent -16.51,-1.397 16.51,1.143

## JUMPER 14x1 [mm] "Connector DIP Male, 14Pin_2.54mm"
height 5
pads (14):
  round 1.6 hole 1 mask+0.1: 1(-16.51,0) 2(-13.97,0) 3(-11.43,0) 4(-8.89,0) 5(-6.35,0) 6(-3.81,0) 7(-1.27,0) 8(1.27,0) 9(3.81,0) 10(6.35,0) 11(8.89,0) 12(11.43,0) 13(13.97,0) 14(16.51,0)
Top Overlay:
  lines w0.3: -15.494,-1.28 -15.494,-1.27 ; -15.494,1.27 -15.24,1.016 ; -15.494,1.28 -17.54,1.28 ccw(c-17.52,1.02) -17.78,1 -17.78,-1 ccw(c-17.52,-1.02) -17.54,-1.28 -15.504,-1.28 -15.494,-1.27 ; -14.986,1.27 -15.24,1.016 ; -14.986,1.28 -12.954,1.28 -12.954,1.27 -12.7,1.016 -12.446,1.27 ; -12.46,-1.28 -10.424,-1.28 -10.414,-1.27 ; -12.46,1.28 -10.414,1.28 ; -12.446,-1.27 -12.7,-1.016 -12.954,-1.27 -12.954,-1.28 -14.986,-1.28 -15.24,-1.026 -15.24,-1.016 ; -10.414,-1.28 -10.414,-1.27 ; -10.414,1.27 -10.16,1.016 -9.906,1.27 ; -9.906,1.28 -7.874,1.28 -7.874,1.27 -7.62,1.016 -7.366,1.27 ; -7.38,-1.28 -5.344,-1.28 -5.334,-1.27 ; -7.38,1.28 -5.334,1.28 ; -7.366,-1.27 -7.62,-1.016 -7.874,-1.27 -7.874,-1.28 -9.906,-1.28 -10.16,-1.026 -10.16,-1.016 -10.414,-1.27 ; -5.334,-1.28 -5.334,-1.27 ; -5.334,1.27 -5.08,1.016 -4.826,1.27 ; -4.826,1.28 -2.794,1.28 -2.794,1.27 -2.54,1.016 -2.286,1.27 ; -2.3,-1.28 -0.264,-1.28 -0.254,-1.27 ; -2.3,1.28 -0.254,1.28 ; -2.286,-1.27 -2.54,-1.016 -2.794,-1.27 -2.794,-1.28 -4.826,-1.28 -5.08,-1.026 -5.08,-1.016 -5.334,-1.27 ; -0.254,-1.28 -0.254,-1.27 ; -0.254,1.27 0,1.016 0.254,1.27 ; 0.254,1.28 2.286,1.28 2.286,1.27 2.54,1.016 2.794,1.27 ; 2.78,-1.28 4.816,-1.28 4.826,-1.27 ; 2.78,1.28 4.826,1.28 ; 2.794,-1.27 2.54,-1.016 2.286,-1.27 2.286,-1.28 0.254,-1.28 0,-1.026 0,-1.016 -0.254,-1.27 ; 4.826,-1.28 4.826,-1.27 ; 4.826,1.27 5.08,1.016 5.334,1.27 ; 5.334,1.28 7.366,1.28 7.366,1.27 7.62,1.016 ; 10.4,-1.28 12.436,-1.28 12.446,-1.27 ; 10.4,1.28 12.446,1.28 ; 10.414,-1.27 10.16,-1.016 ; 10.414,1.27 10.16,1.016 ; 12.446,-1.28 12.446,-1.27 ; 12.446,1.27 12.7,1.016 12.954,1.27 ; 12.94,-1.28 14.976,-1.28 14.986,-1.27 ; 12.94,1.28 14.986,1.28 ; 12.954,-1.27 12.7,-1.016 12.446,-1.27 ; 14.986,-1.28 14.986,-1.27 ; 14.986,1.27 15.24,1.016 15.494,1.27 ; 15.48,-1.28 17.516,-1.28 ; 15.48,1.28 17.526,1.28 ; 15.494,-1.27 15.24,-1.016 14.986,-1.27 ; 17.54,-1.28 ccw(c17.52,-1.02) 17.78,-1 17.78,1 ccw(c17.52,1.02) 17.54,1.28 ; -15.494,-1.27 -15.24,-1.016 ; -15.24,-1.016 -15.24,1.016 ; 4.826,-1.27 5.08,-1.016 5.08,-1.026 5.334,-1.28 7.366,-1.28 7.366,-1.27 7.62,-1.016 ; 7.62,-1.016 7.874,-1.27 7.62,-1.016 ; 7.62,1.016 7.874,1.27 7.62,1.016 ; 9.896,-1.28 9.906,-1.27 ; 9.896,-1.28 7.86,-1.28 9.896,-1.28 ; 9.896,-1.28 9.906,-1.27 ; 9.906,-1.27 10.16,-1.016 ; 9.906,-1.27 9.906,-1.28 9.906,-1.27 ; 9.906,-1.27 10.16,-1.016 ; 10.16,1.016 9.906,1.27 10.16,1.016 ; 7.86,1.28 9.906,1.28 7.86,1.28
Top HCB:
  circle w0.05: c6.35,0 r0.8
  circle w0.05: c-16.51,0 r0.8
  circle w0.05: c-16.51,0 r0.8
  circle w0.05: c-8.89,0 r0.8
  circle w0.05: c-1.27,0 r0.8
  circle w0.05: c16.51,0 r0.8
  circle w0.05: c13.97,0 r0.8
  circle w0.05: c11.43,0 r0.8
  circle w0.05: c8.89,0 r0.8
  circle w0.05: c1.27,0 r0.8
  circle w0.05: c3.81,0 r0.8
  circle w0.05: c-6.35,0 r0.8
  circle w0.05: c-3.81,0 r0.8
  circle w0.05: c-13.97,0 r0.8
  circle w0.05: c-11.43,0 r0.8
  lines w0.05: -15.494,-1.28 -15.494,-1.27 ; -15.494,1.27 -15.24,1.016 -14.986,1.27 ; -15.494,1.28 -17.54,1.28 ccw(c-17.52,1.02) -17.78,1 -17.78,-1 ccw(c-17.52,-1.02) -17.54,-1.28 -15.504,-1.28 -15.494,-1.27 ; -14.986,1.28 -12.954,1.28 -12.954,1.27 -12.7,1.016 -12.446,1.27 ; -12.46,-1.28 -10.424,-1.28 -10.414,-1.27 ; -12.46,1.28 -10.414,1.28 ; -12.446,-1.27 -12.7,-1.016 -12.954,-1.27 -12.954,-1.28 -14.986,-1.28 -15.24,-1.026 -15.24,-1.016 -15.494,-1.27 ; -10.414,-1.28 -10.414,-1.27 ; -10.414,1.27 -10.16,1.016 -9.906,1.27 ; -9.906,1.28 -7.874,1.28 -7.874,1.27 -7.62,1.016 -7.366,1.27 ; -7.38,-1.28 -5.344,-1.28 -5.334,-1.27 ; -7.38,1.28 -5.334,1.28 ; -7.366,-1.27 -7.62,-1.016 -7.874,-1.27 -7.874,-1.28 -9.906,-1.28 -10.16,-1.026 -10.16,-1.016 -10.414,-1.27 ; -5.334,-1.28 -5.334,-1.27 ; -5.334,1.27 -5.08,1.016 -4.826,1.27 ; -4.826,1.28 -2.794,1.28 -2.794,1.27 -2.54,1.016 -2.286,1.27 ; -2.3,-1.28 -0.264,-1.28 -0.254,-1.27 ; -2.3,1.28 -0.254,1.28 ; -2.286,-1.27 -2.54,-1.016 -2.794,-1.27 -2.794,-1.28 -4.826,-1.28 -5.08,-1.026 -5.08,-1.016 -5.334,-1.27 ; -0.254,-1.28 -0.254,-1.27 ; -0.254,1.27 0,1.016 0.254,1.27 ; 0.254,1.28 2.286,1.28 2.286,1.27 2.54,1.016 2.794,1.27 ; 2.78,-1.28 4.816,-1.28 4.826,-1.27 ; 2.78,1.28 4.826,1.28 ; 2.794,-1.27 2.54,-1.016 2.286,-1.27 2.286,-1.28 0.254,-1.28 0,-1.026 0,-1.016 -0.254,-1.27 ; 4.826,-1.28 4.826,-1.27 ; 4.826,1.27 5.08,1.016 5.334,1.27 ; 5.334,1.28 7.366,1.28 ; 7.86,-1.28 9.896,-1.28 ; 7.86,1.28 9.906,1.28 9.906,1.27 10.16,1.016 10.414,1.27 ; 7.874,-1.27 7.62,-1.016 ; 7.874,1.27 7.62,1.016 ; 10.4,-1.28 12.436,-1.28 12.446,-1.27 ; 10.4,1.28 12.446,1.28 12.446,1.27 ; 10.414,-1.27 10.16,-1.016 9.906,-1.27 ; 12.94,-1.28 14.976,-1.28 14.986,-1.27 ; 12.94,1.28 14.986,1.28 14.986,1.27 ; 12.954,-1.27 12.7,-1.016 ; 12.954,1.27 12.7,1.016 ; 15.48,-1.28 17.516,-1.28 ; 15.48,1.28 17.526,1.28 ; 15.494,-1.27 15.24,-1.016 ; 15.494,1.27 15.24,1.016 ; 17.54,-1.28 ccw(c17.52,-1.02) 17.78,-1 17.78,1 ccw(c17.52,1.02) 17.54,1.28 ; 4.826,-1.27 5.08,-1.016 5.08,-1.026 5.334,-1.28 7.366,-1.28 ; 7.366,-1.28 7.366,-1.27 ; 7.366,-1.28 7.366,-1.27 ; 7.366,-1.27 7.62,-1.016 ; 7.366,-1.27 7.62,-1.016 ; 7.366,1.27 7.62,1.016 ; 7.366,1.27 7.366,1.28 ; 7.366,1.27 7.366,1.28 ; 7.366,1.27 7.62,1.016 ; 9.896,-1.28 9.906,-1.27 ; 9.896,-1.28 9.906,-1.27 ; 9.906,-1.28 9.906,-1.27 ; 9.906,-1.28 9.906,-1.27 ; 9.906,-1.28 9.906,-1.27 ; 12.446,-1.27 12.446,-1.28 12.446,-1.27 ; 12.446,-1.27 12.7,-1.016 ; 12.446,-1.27 12.7,-1.016 ; 12.446,1.27 12.7,1.016 ; 12.446,1.27 12.7,1.016 ; 14.986,-1.27 14.986,-1.28 14.986,-1.27 ; 14.986,-1.27 15.24,-1.016 ; 14.986,-1.27 15.24,-1.016 ; 14.986,1.27 15.24,1.016 ; 14.986,1.27 15.24,1.016
  text "14" at 15.9,-0.4 h1.2
  text "1" at -16.8,-0.4 h1.2
3D body "SW3dPS-0_1inch pin strip 14.STEP": height 10.1, standoff -1.5, extent -17.78,-1.27 17.78,1.27

## JUMPER 15x1 [mm] "Connector DIP Male, 15Pin_2.54mm"
height 5
pads (15):
  round 1.6 hole 1 mask+0.1: 1(-17.78,0) 2(-15.24,0) 3(-12.7,0) 4(-10.16,0) 5(-7.62,0) 6(-5.08,0) 7(-2.54,0) 8(0,0) 9(2.54,0) 10(5.08,0) 11(7.62,0) 12(10.16,0) 13(12.7,0) 14(15.24,0) 15(17.78,0)
Top Overlay:
  lines w0.3: -16.764,-1.28 -16.764,-1.27 ; -16.764,1.27 -16.51,1.016 ; -16.764,1.28 -18.81,1.28 ccw(c-18.79,1.02) -19.05,1 -19.05,-1 ccw(c-18.79,-1.02) -18.81,-1.28 -16.774,-1.28 -16.764,-1.27 ; -16.256,1.27 -16.51,1.016 ; -16.256,1.28 -14.224,1.28 -14.224,1.27 -13.97,1.016 -13.716,1.27 ; -13.73,-1.28 -11.694,-1.28 -11.684,-1.27 ; -13.73,1.28 -11.684,1.28 ; -13.716,-1.27 -13.97,-1.016 -14.224,-1.27 -14.224,-1.28 -16.256,-1.28 -16.51,-1.026 ; -11.684,-1.28 -11.684,-1.27 ; -11.684,1.27 -11.43,1.016 -11.176,1.27 ; -11.176,1.28 -9.144,1.28 -9.144,1.27 -8.89,1.016 -8.636,1.27 ; -8.65,-1.28 -6.614,-1.28 -6.604,-1.27 ; -8.65,1.28 -6.604,1.28 ; -8.636,-1.27 -8.89,-1.016 -9.144,-1.27 -9.144,-1.28 -11.176,-1.28 -11.43,-1.026 -11.43,-1.016 -11.684,-1.27 ; -6.604,-1.28 -6.604,-1.27 ; -6.604,1.27 -6.35,1.016 -6.096,1.27 ; -6.096,1.28 -4.064,1.28 -4.064,1.27 -3.81,1.016 -3.556,1.27 ; -3.57,-1.28 -1.534,-1.28 -1.524,-1.27 ; -3.57,1.28 -1.524,1.28 ; -3.556,-1.27 -3.81,-1.016 -4.064,-1.27 -4.064,-1.28 -6.096,-1.28 -6.35,-1.026 -6.35,-1.016 -6.604,-1.27 ; -1.524,-1.28 -1.524,-1.27 ; -1.524,1.27 -1.27,1.016 -1.016,1.27 ; -1.016,1.28 1.016,1.28 1.016,1.27 1.27,1.016 1.524,1.27 ; 1.51,-1.28 3.546,-1.28 3.556,-1.27 ; 1.51,1.28 3.556,1.28 ; 1.524,-1.27 1.27,-1.016 1.016,-1.27 1.016,-1.28 -1.016,-1.28 -1.27,-1.026 -1.27,-1.016 -1.524,-1.27 ; 3.556,-1.28 3.556,-1.27 ; 3.556,1.27 3.81,1.016 4.064,1.27 ; 4.064,1.28 6.096,1.28 6.096,1.27 6.35,1.016 ; 9.13,-1.28 11.166,-1.28 11.176,-1.27 ; 9.13,1.28 11.176,1.28 ; 9.144,-1.27 8.89,-1.016 ; 9.144,1.27 8.89,1.016 ; 11.176,-1.28 11.176,-1.27 ; 11.176,1.27 11.43,1.016 11.684,1.27 ; 11.67,-1.28 13.706,-1.28 13.716,-1.27 ; 11.67,1.28 13.716,1.28 ; 11.684,-1.27 11.43,-1.016 11.176,-1.27 ; 13.716,-1.28 13.716,-1.27 ; 13.716,1.27 13.97,1.016 14.224,1.27 ; 14.21,-1.28 16.246,-1.28 16.256,-1.27 ; 14.21,1.28 16.256,1.28 ; 14.224,-1.27 13.97,-1.016 13.716,-1.27 ; 16.256,-1.28 16.256,-1.27 ; 16.256,1.27 16.51,1.016 16.764,1.27 ; 16.75,-1.28 18.786,-1.28 ; 16.75,1.28 18.796,1.28 ; 16.764,-1.27 16.51,-1.016 16.256,-1.27 ; 18.81,-1.28 ccw(c18.79,-1.02) 19.05,-1 19.05,1 ccw(c18.79,1.02) 18.81,1.28 ; -16.764,-1.27 -16.51,-1.016 -16.51,-1.026 ; -16.51,-1.026 -16.51,1.016 ; 3.556,-1.27 3.81,-1.016 3.81,-1.026 4.064,-1.28 6.096,-1.28 6.096,-1.27 6.35,-1.016 ; 6.35,-1.016 6.604,-1.27 6.35,-1.016 ; 6.35,1.016 6.604,1.27 6.35,1.016 ; 8.626,-1.28 8.636,-1.27 ; 8.626,-1.28 6.59,-1.28 8.626,-1.28 ; 8.626,-1.28 8.636,-1.27 ; 8.636,-1.27 8.89,-1.016 ; 8.636,-1.27 8.636,-1.28 8.636,-1.27 ; 8.636,-1.27 8.89,-1.016 ; 8.89,1.016 8.636,1.27 8.89,1.016 ; 6.59,1.28 8.636,1.28 6.59,1.28
Top HCB:
  drawing of 161 lines, arcs and shapes, not listed
  text "15" at 17.2,-0.4 h1.2
  text "1" at -17.9,-0.4 h1.2
3D body "SW3dPS-0_1inch pin strip.STEP": height 10.1, standoff -1.5, extent -19.05,-1.27 19.05,1.27

## JUMPER 16x1 [mm] "Connector DIP Male, 16Pin_2.54mm"
height 5
pads (16):
  round 1.6 hole 1 mask+0.1: 1(-19.05,0) 2(-16.51,0) 3(-13.97,0) 4(-11.43,0) 5(-8.89,0) 6(-6.35,0) 7(-3.81,0) 8(-1.27,0) 9(1.27,0) 10(3.81,0) 11(6.35,0) 12(8.89,0) 13(11.43,0) 14(13.97,0) 15(16.51,0) 16(19.05,0)
Top Overlay:
  lines w0.3: -18.034,-1.28 -18.034,-1.27 ; -18.034,1.27 -17.78,1.016 ; -18.034,1.28 -20.08,1.28 ccw(c-20.06,1.02) -20.32,1 -20.32,-1 ccw(c-20.06,-1.02) -20.08,-1.28 -18.044,-1.28 -18.034,-1.27 ; -17.526,1.27 -17.78,1.016 ; -17.526,1.28 -15.494,1.28 -15.494,1.27 -15.24,1.016 -14.986,1.27 ; -15,-1.28 -12.964,-1.28 -12.954,-1.27 ; -15,1.28 -12.954,1.28 ; -14.986,-1.27 -15.24,-1.016 -15.494,-1.27 -15.494,-1.28 -17.526,-1.28 -17.78,-1.026 -17.78,-1.016 ; -12.954,-1.28 -12.954,-1.27 ; -12.954,1.27 -12.7,1.016 -12.446,1.27 ; -12.446,1.28 -10.414,1.28 -10.414,1.27 -10.16,1.016 -9.906,1.27 ; -9.92,-1.28 -7.884,-1.28 -7.874,-1.27 ; -9.92,1.28 -7.874,1.28 ; -9.906,-1.27 -10.16,-1.016 -10.414,-1.27 -10.414,-1.28 -12.446,-1.28 -12.7,-1.026 -12.7,-1.016 -12.954,-1.27 ; -7.874,-1.28 -7.874,-1.27 ; -7.874,1.27 -7.62,1.016 -7.366,1.27 ; -7.366,1.28 -5.334,1.28 -5.334,1.27 -5.08,1.016 -4.826,1.27 ; -4.84,-1.28 -2.804,-1.28 -2.794,-1.27 ; -4.84,1.28 -2.794,1.28 ; -4.826,-1.27 -5.08,-1.016 -5.334,-1.27 -5.334,-1.28 -7.366,-1.28 -7.62,-1.026 -7.62,-1.016 -7.874,-1.27 ; -2.794,-1.28 -2.794,-1.27 ; -2.794,1.27 -2.54,1.016 -2.286,1.27 ; -2.286,1.28 -0.254,1.28 -0.254,1.27 0,1.016 0.254,1.27 ; 0.24,-1.28 2.276,-1.28 2.286,-1.27 ; 0.24,1.28 2.286,1.28 ; 0.254,-1.27 0,-1.016 -0.254,-1.27 -0.254,-1.28 -2.286,-1.28 -2.54,-1.026 -2.54,-1.016 -2.794,-1.27 ; 2.286,-1.28 2.286,-1.27 ; 2.286,1.27 2.54,1.016 2.794,1.27 ; 2.794,1.28 4.826,1.28 4.826,1.27 5.08,1.016 ; 7.86,-1.28 9.896,-1.28 9.906,-1.27 ; 7.86,1.28 9.906,1.28 ; 7.874,-1.27 7.62,-1.016 ; 7.874,1.27 7.62,1.016 ; 9.906,-1.28 9.906,-1.27 ; 9.906,1.27 10.16,1.016 10.414,1.27 ; 10.4,-1.28 12.436,-1.28 12.446,-1.27 ; 10.4,1.28 12.446,1.28 ; 10.414,-1.27 10.16,-1.016 9.906,-1.27 ; 12.446,-1.28 12.446,-1.27 ; 12.446,1.27 12.7,1.016 12.954,1.27 ; 12.94,-1.28 14.976,-1.28 14.986,-1.27 ; 12.94,1.28 14.986,1.28 ; 12.954,-1.27 12.7,-1.016 12.446,-1.27 ; 14.986,-1.28 14.986,-1.27 ; 14.986,1.27 15.24,1.016 15.494,1.27 ; 15.48,-1.28 17.516,-1.28 17.526,-1.27 ; 15.48,1.28 17.526,1.28 ; 15.494,-1.27 15.24,-1.016 14.986,-1.27 ; 17.526,-1.28 17.526,-1.27 ; 17.526,1.27 17.78,1.016 18.034,1.27 ; 18.02,-1.28 20.056,-1.28 ; 18.02,1.28 20.066,1.28 ; 18.034,-1.27 17.78,-1.016 17.526,-1.27 ; 20.08,-1.28 ccw(c20.06,-1.02) 20.32,-1 20.32,1 ccw(c20.06,1.02) 20.08,1.28 ; -18.034,-1.27 -17.78,-1.016 ; -17.78,-1.016 -17.78,1.016 ; 2.286,-1.27 2.54,-1.016 2.54,-1.026 2.794,-1.28 4.826,-1.28 4.826,-1.27 5.08,-1.016 ; 5.08,-1.016 5.334,-1.27 5.08,-1.016 ; 5.08,1.016 5.334,1.27 5.08,1.016 ; 7.356,-1.28 7.366,-1.27 ; 7.356,-1.28 5.32,-1.28 7.356,-1.28 ; 7.356,-1.28 7.366,-1.27 ; 7.366,-1.27 7.62,-1.016 ; 7.366,-1.27 7.366,-1.28 7.366,-1.27 ; 7.366,-1.27 7.62,-1.016 ; 7.62,1.016 7.366,1.27 7.62,1.016 ; 5.32,1.28 7.366,1.28 5.32,1.28
Top HCB:
  drawing of 178 lines, arcs and shapes, not listed
  text "16" at 18.5,-0.4 h1.2
  text "1" at -19.2,-0.4 h1.2
3D body "Header 1x16.STEP": height 10.1, standoff -1.5, extent -20.32,-1.27 20.32,1.27

## JUMPER 17x1 [mm] "Connector DIP, 17Pin_2.54mm"
height 5
pads (17):
  round 1.6 hole 1 mask+0.1: 1(-20.32,0) 2(-17.78,0) 3(-15.24,0) 4(-12.7,0) 5(-10.16,0) 6(-7.62,0) 7(-5.08,0) 8(-2.54,0) 9(0,0) 10(2.54,0) 11(5.08,0) 12(7.62,0) 13(10.16,0) 14(12.7,0) 15(15.24,0) 16(17.78,0) 17(20.32,0)
Top Overlay:
  drawing of 153 lines, arcs and shapes, not listed
Top HCB:
  drawing of 190 lines, arcs and shapes, not listed
  text "17" at 19.8,-0.4 h1.2
  text "1" at -20.5,-0.4 h1.2
3D body "SW3dPS-0_1inch pin strip.STEP": height 10.1, standoff -1.5, extent -21.59,-1.27 21.59,1.27

## JUMPER 18x1 [mm] "Connector DIP Male, 18Pin_2.54mm"
height 5
pads (18):
  round 1.6 hole 1 mask+0.1: 1(-21.59,0) 2(-19.05,0) 3(-16.51,0) 4(-13.97,0) 5(-11.43,0) 6(-8.89,0) 7(-6.35,0) 8(-3.81,0) 9(-1.27,0) 10(1.27,0) 11(3.81,0) 12(6.35,0) 13(8.89,0) 14(11.43,0) 15(13.97,0) 16(16.51,0) 17(19.05,0) 18(21.59,0)
Top Overlay:
  drawing of 160 lines, arcs and shapes, not listed
Top HCB:
  drawing of 198 lines, arcs and shapes, not listed
  text "18" at 21.1,-0.4 h1.2
  text "1" at -21.8,-0.4 h1.2
3D body "User Library-0_1inch pin strip 18.step": height 10.1, standoff -1.5, extent -22.86,-1.27 22.86,1.27

## JUMPER 19x1 [mm] "Connector DIP Male, 19Pin_2.54mm"
height 5
pads (19):
  round 1.6 hole 1 mask+0.1: 1(-22.86,0) 2(-20.32,0) 3(-17.78,0) 4(-15.24,0) 5(-12.7,0) 6(-10.16,0) 7(-7.62,0) 8(-5.08,0) 9(-2.54,0) 10(0,0) 11(2.54,0) 12(5.08,0) 13(7.62,0) 14(10.16,0) 15(12.7,0) 16(15.24,0) 17(17.78,0) 18(20.32,0) 19(22.86,0)
Top Overlay:
  drawing of 169 lines, arcs and shapes, not listed
Top HCB:
  drawing of 208 lines, arcs and shapes, not listed
  text "19" at 22.3,-0.4 h1.2
  text "1" at -23,-0.4 h1.2
3D body "User Library-0_1inch pin strip 19.step": height 10.1, standoff -1.5, extent -24.13,-1.27 24.13,1.27

## JUMPER 20x1 [mm] "Connector DIP Male, 20Pin_2.54mm"
height 5
pads (20):
  round 1.6 hole 1 mask+0.1: 1(-24.13,0) 2(-21.59,0) 3(-19.05,0) 4(-16.51,0) 5(-13.97,0) 6(-11.43,0) 7(-8.89,0) 8(-6.35,0) 9(-3.81,0) 10(-1.27,0) 11(1.27,0) 12(3.81,0) 13(6.35,0) 14(8.89,0) 15(11.43,0) 16(13.97,0) 17(16.51,0) 18(19.05,0) 19(21.59,0) 20(24.13,0)
Top Overlay:
  drawing of 178 lines, arcs and shapes, not listed
Top HCB:
  drawing of 218 lines, arcs and shapes, not listed
  text "1" at -24.3,-0.4 h1.2
  text "20" at 23.6,-0.3 h1.2
3D body "Header 1x20.STEP": height 10.1, standoff -1.5, extent -25.4,-1.27 25.4,1.27